# EAGLE library part AD7771BCPZ (library AD7771)
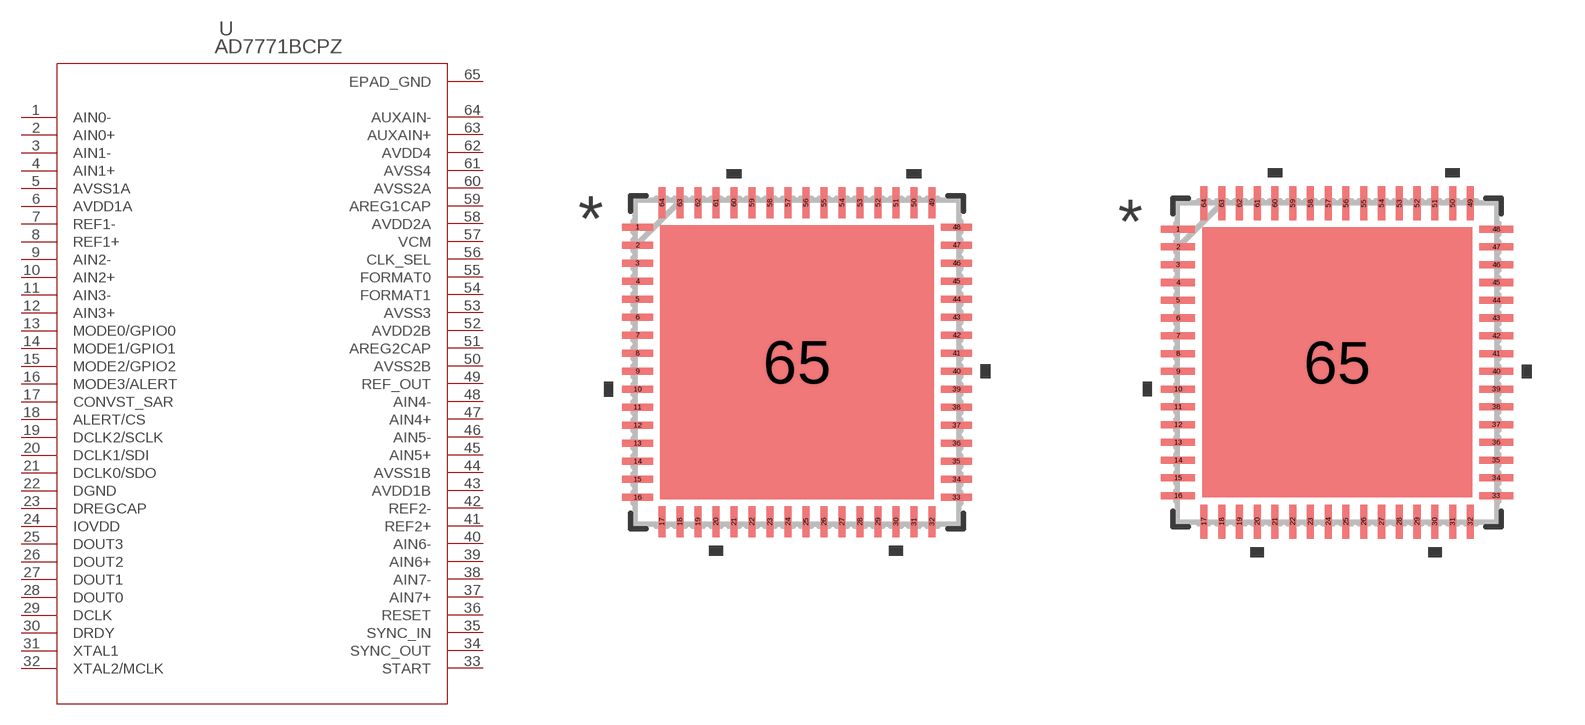
[diagram p0: symbol with the pads of CP_64_15_ADI; footprints CP_64_15_ADI, CP_64_15_ADI-M]

Designator prefix U

## AD7771BCPZ (BUILT_BY: Analog Devices Inc.; MANUFACTURER_PART_NUMBER: AD7771BCPZ; SOURCELIBRARY: Analog_2017-10-24; VENDOR: Analog Devices Inc)  [CP_64_15_ADI]
1  AIN0-  pas
2  AIN0+  pas
3  AIN1-  pas
4  AIN1+  pas
5  AVSS1A  pas
6  AVDD1A  pas
7  REF1-  pas
8  REF1+  pas
9  AIN2-  pas
10  AIN2+  pas
11  AIN3-  pas
12  AIN3+  pas
13  MODE0/GPIO0  pas
14  MODE1/GPIO1  pas
15  MODE2/GPIO2  pas
16  MODE3/ALERT  pas
17  CONVST_SAR  pas
18  ALERT/CS  pas
19  DCLK2/SCLK  pas
20  DCLK1/SDI  pas
21  DCLK0/SDO  pas
22  DGND  pas
23  DREGCAP  pas
24  IOVDD  pas
25  DOUT3  pas
26  DOUT2  pas
27  DOUT1  pas
28  DOUT0  pas
29  DCLK  pas
30  DRDY  pas
31  XTAL1  pas
32  XTAL2/MCLK  pas
33  START  pas
34  SYNC_OUT  pas
35  SYNC_IN  pas
36  RESET  pas
37  AIN7+  pas
38  AIN7-  pas
39  AIN6+  pas
40  AIN6-  pas
41  REF2+  pas
42  REF2-  pas
43  AVDD1B  pas
44  AVSS1B  pas
45  AIN5+  pas
46  AIN5-  pas
47  AIN4+  pas
48  AIN4-  pas
49  REF_OUT  pas
50  AVSS2B  pas
51  AREG2CAP  pas
52  AVDD2B  pas
53  AVSS3  pas
54  FORMAT1  pas
55  FORMAT0  pas
56  CLK_SEL  pas
57  VCM  pas
58  AVDD2A  pas
59  AREG1CAP  pas
60  AVSS2A  pas
61  AVSS4  pas
62  AVDD4  pas
63  AUXAIN+  pas
64  AUXAIN-  pas
65  EPAD_GND  pas

## AD7771BCPZCP_64_15_ADI-M (BUILT_BY: Analog Devices Inc.; MANUFACTURER_PART_NUMBER: AD7771BCPZ; SOURCELIBRARY: Analog_2017-10-24; VENDOR: Analog Devices Inc)  [CP_64_15_ADI-M]
Pads as for CP_64_15_ADI

## AD7771BCPZCP_64_15_ADI-L (BUILT_BY: Analog Devices Inc.; MANUFACTURER_PART_NUMBER: AD7771BCPZ; SOURCELIBRARY: Analog_2017-10-24; VENDOR: Analog Devices Inc)  [CP_64_15_ADI-L]
Pads as for CP_64_15_ADI

## Footprint CP_64_15_ADI (pad centres in mm)
smd 0.855 x 0.198: 1 -4.427,3.75; 2 -4.427,3.25; 3 -4.427,2.75; 4 -4.427,2.25; 5 -4.427,1.75; 6 -4.427,1.25; 7 -4.427,0.75; 8 -4.427,0.25; 9 -4.427,-0.25; 10 -4.427,-0.75; 11 -4.427,-1.25; 12 -4.427,-1.75; 13 -4.427,-2.25; 14 -4.427,-2.75; 15 -4.427,-3.25; 16 -4.427,-3.75; 33 4.427,-3.75; 34 4.427,-3.25; 35 4.427,-2.75; 36 4.427,-2.25; 37 4.427,-1.75; 38 4.427,-1.25; 39 4.427,-0.75; 40 4.427,-0.25; 41 4.427,0.25; 42 4.427,0.75; 43 4.427,1.25; 44 4.427,1.75; 45 4.427,2.25; 46 4.427,2.75; 47 4.427,3.25; 48 4.427,3.75
smd 0.198 x 0.855: 17 -3.75,-4.427; 18 -3.25,-4.427; 19 -2.75,-4.427; 20 -2.25,-4.427; 21 -1.75,-4.427; 22 -1.25,-4.427; 23 -0.75,-4.427; 24 -0.25,-4.427; 25 0.25,-4.427; 26 0.75,-4.427; 27 1.25,-4.427; 28 1.75,-4.427; 29 2.25,-4.427; 30 2.75,-4.427; 31 3.25,-4.427; 32 3.75,-4.427; 49 3.75,4.427; 50 3.25,4.427; 51 2.75,4.427; 52 2.25,4.427; 53 1.75,4.427; 54 1.25,4.427; 55 0.75,4.427; 56 0.25,4.427; 57 -0.25,4.427; 58 -0.75,4.427; 59 -1.25,4.427; 60 -1.75,4.427; 61 -2.25,4.427; 62 -2.75,4.427; 63 -3.25,4.427; 64 -3.75,4.427
smd 7.6 x 7.6: 65 0,0

## Footprint CP_64_15_ADI-M (pad centres in mm)
smd 0.956 x 0.198: 1 -4.478,3.75; 2 -4.478,3.25; 3 -4.478,2.75; 4 -4.478,2.25; 5 -4.478,1.75; 6 -4.478,1.25; 7 -4.478,0.75; 8 -4.478,0.25; 9 -4.478,-0.25; 10 -4.478,-0.75; 11 -4.478,-1.25; 12 -4.478,-1.75; 13 -4.478,-2.25; 14 -4.478,-2.75; 15 -4.478,-3.25; 16 -4.478,-3.75; 33 4.478,-3.75; 34 4.478,-3.25; 35 4.478,-2.75; 36 4.478,-2.25; 37 4.478,-1.75; 38 4.478,-1.25; 39 4.478,-0.75; 40 4.478,-0.25; 41 4.478,0.25; 42 4.478,0.75; 43 4.478,1.25; 44 4.478,1.75; 45 4.478,2.25; 46 4.478,2.75; 47 4.478,3.25; 48 4.478,3.75
smd 0.198 x 0.956: 17 -3.75,-4.478; 18 -3.25,-4.478; 19 -2.75,-4.478; 20 -2.25,-4.478; 21 -1.75,-4.478; 22 -1.25,-4.478; 23 -0.75,-4.478; 24 -0.25,-4.478; 25 0.25,-4.478; 26 0.75,-4.478; 27 1.25,-4.478; 28 1.75,-4.478; 29 2.25,-4.478; 30 2.75,-4.478; 31 3.25,-4.478; 32 3.75,-4.478; 49 3.75,4.478; 50 3.25,4.478; 51 2.75,4.478; 52 2.25,4.478; 53 1.75,4.478; 54 1.25,4.478; 55 0.75,4.478; 56 0.25,4.478; 57 -0.25,4.478; 58 -0.75,4.478; 59 -1.25,4.478; 60 -1.75,4.478; 61 -2.25,4.478; 62 -2.75,4.478; 63 -3.25,4.478; 64 -3.75,4.478
smd 7.6 x 7.6: 65 0,0

## Footprint CP_64_15_ADI-L (pad centres in mm)
smd 0.753 x 0.198: 1 -4.377,3.75; 2 -4.377,3.25; 3 -4.377,2.75; 4 -4.377,2.25; 5 -4.377,1.75; 6 -4.377,1.25; 7 -4.377,0.75; 8 -4.377,0.25; 9 -4.377,-0.25; 10 -4.377,-0.75; 11 -4.377,-1.25; 12 -4.377,-1.75; 13 -4.377,-2.25; 14 -4.377,-2.75; 15 -4.377,-3.25; 16 -4.377,-3.75; 33 4.377,-3.75; 34 4.377,-3.25; 35 4.377,-2.75; 36 4.377,-2.25; 37 4.377,-1.75; 38 4.377,-1.25; 39 4.377,-0.75; 40 4.377,-0.25; 41 4.377,0.25; 42 4.377,0.75; 43 4.377,1.25; 44 4.377,1.75; 45 4.377,2.25; 46 4.377,2.75; 47 4.377,3.25; 48 4.377,3.75
smd 0.198 x 0.753: 17 -3.75,-4.377; 18 -3.25,-4.377; 19 -2.75,-4.377; 20 -2.25,-4.377; 21 -1.75,-4.377; 22 -1.25,-4.377; 23 -0.75,-4.377; 24 -0.25,-4.377; 25 0.25,-4.377; 26 0.75,-4.377; 27 1.25,-4.377; 28 1.75,-4.377; 29 2.25,-4.377; 30 2.75,-4.377; 31 3.25,-4.377; 32 3.75,-4.377; 49 3.75,4.377; 50 3.25,4.377; 51 2.75,4.377; 52 2.25,4.377; 53 1.75,4.377; 54 1.25,4.377; 55 0.75,4.377; 56 0.25,4.377; 57 -0.25,4.377; 58 -0.75,4.377; 59 -1.25,4.377; 60 -1.75,4.377; 61 -2.25,4.377; 62 -2.75,4.377; 63 -3.25,4.377; 64 -3.75,4.377
smd 7.6 x 7.6: 65 0,0